# Altium footprint library PcbLib1.PcbLib: 23 footprints (part 2 of 2)
Each footprint in its own frame and in the unit in brackets; x right, y up, seen from the top. Pads: shape width x height; smd on the part's side, far side on the other; paste and mask are expansions set on the pad; w line width, h text height; cw(c..) or ccw(c..) is an arc to the next point about the centre after c.
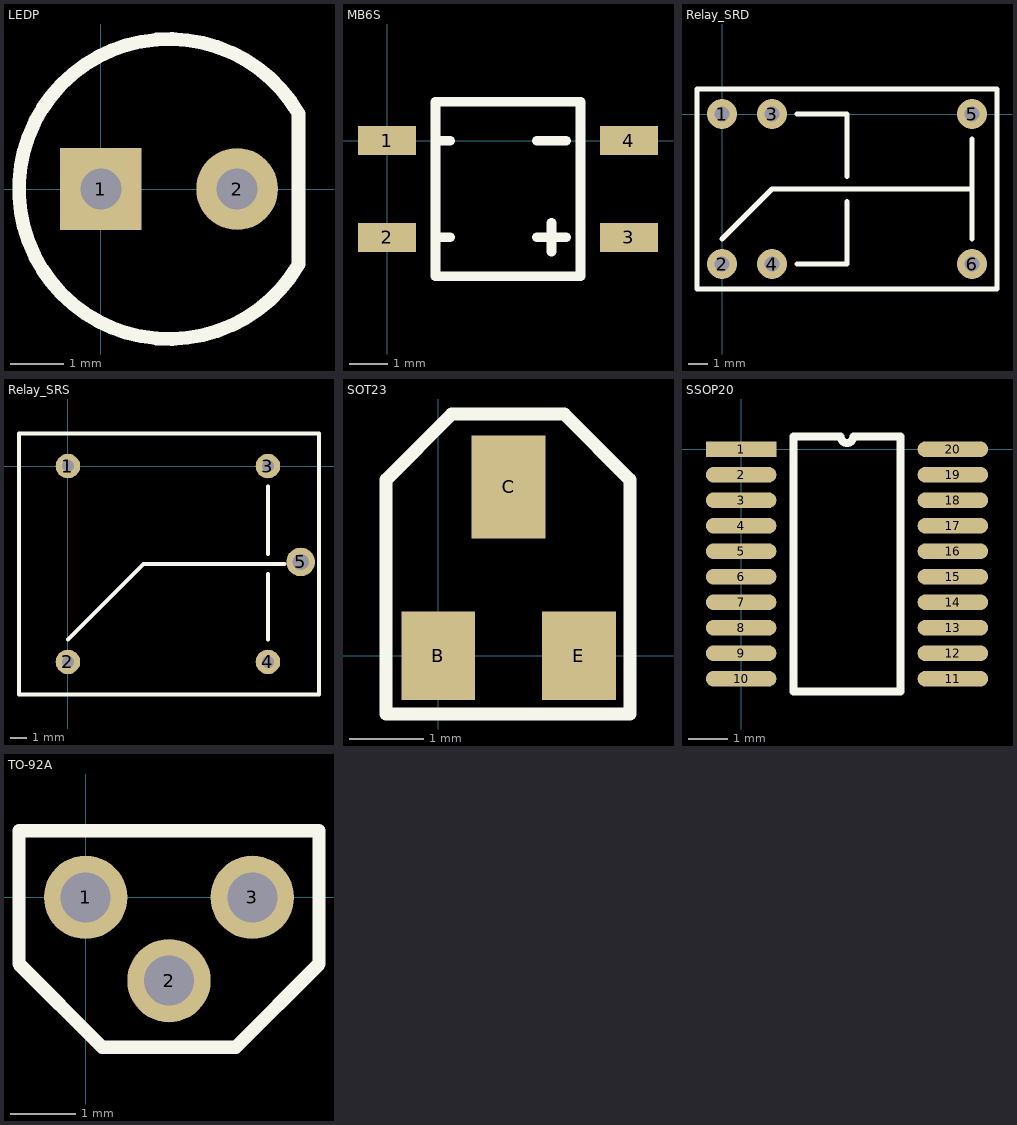
[diagram p1: the footprints below, top view; thin cyan lines are the x and y axes]

## LEDP [mil]
pads (2):
  rect 60x60 hole 30: 1(0,0)
  round 60 hole 30: 2(100,0)
Top Overlay:
  lines w10: 145,-55.11 145,55 ; 145.2,-55.11 cw(c50,0) 145.2,55.11

## MB6S [mil]
pads (4):
  rect 60x30 smd: 1(0,0) 2(0,-100) 3(250,-100) 4(250,0)
Top Overlay:
  lines w10: 50,-100 65,-100 ; 50,0 65,0 ; 155,-100 185,-100 ; 155,0 185,0 ; 170,-115 170,-85 ; 50,-140 200,-140 200,40 50,40 50,-140

## Relay_SRD [mil]
pads (6):
  round 60 hole 30: 1(0,0) 2(0,-300) 3(100,0) 4(100,-300) 5(500,0) 6(500,-300)
Top Overlay:
  lines w10: 0,-250 100,-150 500,-150 ; 150,-300 250,-300 250,-175 ; 150,0 250,0 250,-125 ; 500,-250 500,-50 ; -50,-350 -50,50 550,50 550,-350 -50,-350

## Relay_SRS [mil]
pads (5):
  round 60 hole 30: 1(0,0) 2(0,-480) 3(490,0) 4(490,-480)
  round 70 hole 40: 5(570,-235)
Top Overlay:
  lines w10: 0,-425 185,-240 530,-240 ; 490,-425 490,-265 ; 490,-215 490,-50 ; -120,-560 -120,80 615,80 615,-560 -120,-560

## SOT23 [mm]
pads (3):
  rect 1x1.2 smd: B(0,0) E(1.905,0)
  rect 1x1.4 smd: C(0.953,2.286)
Top Overlay:
  lines w0.178: -0.707,-0.79 -0.707,1.877 -0.707,2.385 0.182,3.274 1.706,3.274 2.595,2.385 2.595,1.877 2.595,-0.79 -0.707,-0.79

## SSOP20 [mm]
pads (20):
  rect 1.8x0.4 smd: 1(0,0)
  oval 1.8x0.4 smd: 2(0,-0.65) 3(0,-1.3) 4(0,-1.95) 5(0,-2.6) 6(0,-3.25) 7(0,-3.9) 8(0,-4.55) 9(0,-5.2) 10(0,-5.85) 11(5.4,-5.85) 12(5.4,-5.2) 13(5.4,-4.55) 14(5.4,-3.9) 15(5.4,-3.25) 16(5.4,-2.6) 17(5.4,-1.95) 18(5.4,-1.3) 19(5.4,-0.65) 20(5.4,0)
Top Overlay:
  lines w0.2: 1.335,-6.175 4.065,-6.175 4.065,0.325 2.862,0.325 cw(c2.7,0.325) 2.538,0.325 1.335,0.325 1.335,-6.175

## TO-92A [mil]
pads (3):
  round 50 hole 30: 1(0,0) 2(50,-50) 3(100,0)
Top Overlay:
  lines w8: -40,-40 10,-90 90,-90 140,-40 140,40 -40,40 -40,-40